# Altium integrated library Voltage Regulators and References.IntLib: 29 symbols
Pins are listed as number, name and electrical type; pins without a type are passive.

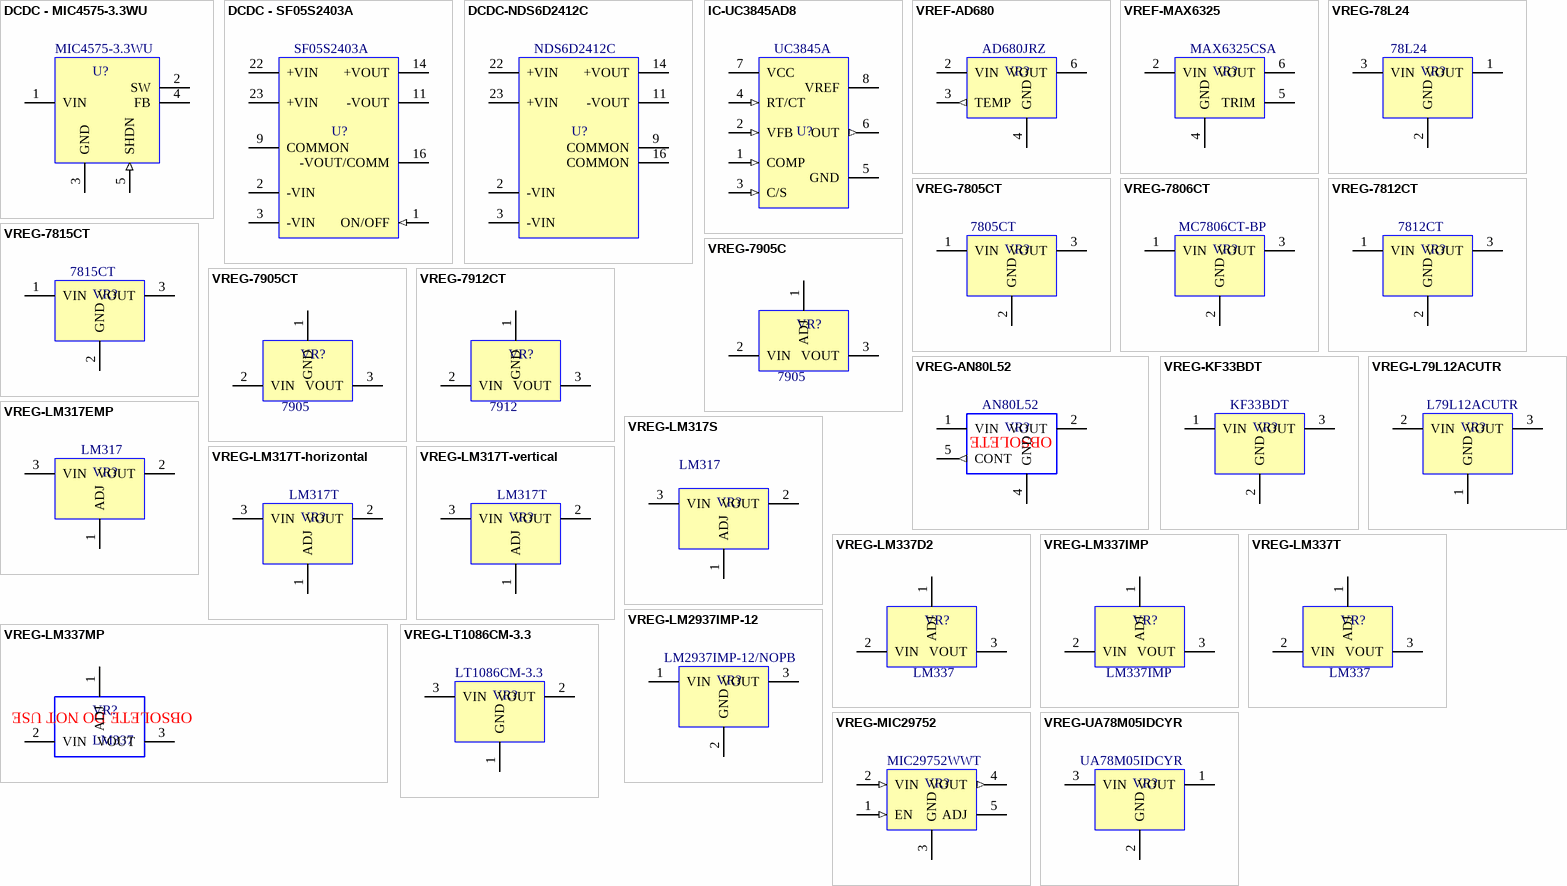
[diagram p0: symbols DCDC - MIC4575-3.3WU to VREG-UA78M05IDCYR]

## DCDC - MIC4575-3.3WU
designator U?, comment MIC4575-3.3WU
MIC4575-3.3WU, IC Regulator, Buck/Buck-Boost, 3.3V out, 1A.  4V-24V DC Input range.  D2 Package; Manufacturer: Micrel Inc.; Output Current: 1A; Output Voltage: 3.3V Fixed; Input Voltage: 4VDC-24VDC; ComponentLink1Description: Datasheet; ComponentLink1URL: \\canopus\Datasheets\Voltage Regulators and References\mic4575.pdf; Output Type: DC; PackageDescription: D2-PAK, 5-Pads and Tab; Package Reference: TO-263-5 (DD-Pack); Supplier 1: Mouser; Supplier Part Number 1: 998-MIC4575-3.3WU; Supplier 2: Digi-Key; Supplier Part Number 2: 576-2341-ND; Supplier 3: Newark; Supplier Part Number 3: 27K8325; Part Number: MIC4575-3.3WU
3D model TO-263_5-pin (PCB3D Model)
footprint TO-263-5 (DD-Pack) (D2-PAK, 6-Pads, Body 7.68x8.69mm (max), IPC Low Density)
pins: 1 VIN, 2 SW (power) "Switching Output", 3 GND (power), 4 FB (power) "Feedback", 5 SHDN (in) "Shutdown"

## DCDC - SF05S2403A
designator U?, comment SF05S2403A
DC-DC Converter, 24VIN, 3.3VOUT; Manufacturer: Delta Electronics; Output Voltage: 3.3V +/- 1.0%; Line Regulation: +/- 0.3%; Isolation Voltage: 1500 VDC; Output Current: 1.2A (max); Output Type: DC; Input Voltage: 18-36VDC; Supplier 1: Digi-Key; Supplier Part Number 1: 941-1366-ND; ComponentLink1Description: Datasheet; ComponentLink1URL: \\canopus\Datasheets\Voltage Regulators and References\DS_SF05S & D series_07162012.pdf; Package Reference: 24 SMD Module (12 leads); Part Number: SF05S2403A
footprint SF05S/D (SF05S/D Series DC/DC Converters, SMD)
pins: 1 ON/OFF (in), 2 -VIN (power), 3 -VIN (power), 9 COMMON, 11 -VOUT (power), 14 +VOUT (power), 16 -VOUT/COMM (power), 22 +VIN (power), 23 +VIN (power)

## DCDC-NDS6D2412C
designator U?, comment NDS6D2412C
DC-DC Converter, 24VIN, +/-12V OUT @ 250mA each; Manufacturer: Murata Power Solutions; Output Voltage: +/- 12V (+/- 2%); Line Regulation: +/- 0.02%; Isolation Voltage: 1500 VDC; Output Current: 250mA (each rail); Output Type: DC; Input Voltage: 18-36VDC; ComponentLink1Description: Datasheet; ComponentLink1URL: \\canopus\Datasheets\Voltage Regulators and References\kdc_nds6c.pdf; PackageDescription: 24 DIP module; Package Reference: 24 SMD Module (12 leads); Supplier 1: Digi-Key; Supplier Part Number 1: 811-1994-5-ND; Supplier 2: Mouser; Supplier Part Number 2: 580-NDS6D2412C; Supplier 3: Allied; Supplier Part Number 3: R1031524; Part Number: NDS6D2412C
footprint NDS6 (DC/DC Converter, 1.26" L x 0.79" W x 0.39" H (32.0mm x 20.1mm x 9.9mm) (1x2 brick))
pins: 2 -VIN (power), 3 -VIN (power), 9 COMMON, 11 -VOUT (power), 14 +VOUT (power), 16 COMMON (power), 22 +VIN (power), 23 +VIN (power)

## IC-UC3845AD8
designator U?, comment UC3845A
Current Mode PWM Controller, DC/DC Switch-mode control, 500kHz max, 50% duty cycle, buck, boost, flyback; Manufacturer: Texas Instruments; Output Type: DC/DC Switching Controller 500kHz; Input Voltage: 7.6V-30VDC; Output Current: N/A; Output Voltage: N/A; PackageDescription: 0.154" (3.90mm) width; Supplier 1: Newark; Supplier Part Number 1: 96W3584; Supplier 2: TME; Supplier Part Number 2: UC3845AD8; Supplier 3: Digi-Key; Supplier Part Number 3: 296-27153-1-ND; ComponentLink1Description: Datasheet; ComponentLink1URL: \\canopus\Datasheets\Voltage Regulators and References\UC3845AD8.pdf; Package Reference: SOIC-8; Part Number: UC3845A
footprint SOIC-8 (SOIC, 8-Leads, Body 4.9x3.9mm, Pitch 1.27mm, IPC Low Density)
3D model SOIC-8-1 (PCB3D Model)
pins: 1 COMP (in), 2 VFB (in), 3 C/S (in), 4 RT/CT (in), 5 GND (power), 6 OUT (out), 7 VCC (power), 8 VREF

## VREF-AD680
designator VR?, comment AD680JRZ
Voltage Reference, 2.5V, 10mA; Manufacturer: Analog Devices; Input Voltage: 4.5V to 36V; Output Type: Fixed; Supplier 1: Digi-Key; Supplier Part Number 1: AD680JRZ-ND; Supplier 2: Newark; Supplier Part Number 2: 87H9962; Supplier 3: Mouser; Supplier Part Number 3: 584-AD680JRZ; Output Current: 10mA; PackageDescription: 0.154" (3.90mm) width; Output Voltage: 2.5V; ComponentLink1Description: Datasheet; ComponentLink1URL: \\canopus\Datasheets\Voltage Regulators and References\AD680.pdf; Package Reference: SOIC-8; Part Number: AD680JRZ
footprint SOIC-8 (SOIC, 8-Leads, Body 4.9x3.9mm, Pitch 1.27mm, IPC Low Density)
3D model SOIC-8-1 (PCB3D Model)
pins: 2 VIN, 3 TEMP (out), 4 GND (power), 6 VOUT (power)

## VREF-MAX6325
designator VR?, comment MAX6325CSA
Voltage Reference, 2.5V, 15mA; Manufacturer: Maxim Integrated; Input Voltage: 8V to 36V; Output Type: Positive Fixed; Output Voltage: 2.5VDC; Output Current: 15mA; PackageDescription: 0.154" (3.90mm) width; Supplier 1: Digi-Key; Supplier Part Number 1: MAX6325CSA+-ND; Supplier 2: Mouser; Supplier Part Number 2: 700-MAX6341CSA; ComponentLink1Description: Datasheet; ComponentLink1URL: \\canopus\Datasheets\Voltage Regulators and References\MAX6325.pdf; Package Reference: SOIC-8; Part Number: MAX6325CSA
footprint SOIC-8 (SOIC, 8-Leads, Body 4.9x3.9mm, Pitch 1.27mm, IPC Low Density)
3D model SOIC-8-1 (PCB3D Model)
pins: 2 VIN, 4 GND (power), 5 TRIM, 6 VOUT (power)

## VREG-78L24
designator VR?, comment Part Number: 78L24  (hidden comment: TA78L24F(TE12L,F))
78L24 Voltage Regulator, 24V, 150mA, LDO; Manufacturer: Toshiba Semiconductor and Storage; Output Type: Positive Fixed; Input Voltage: up to 40V; Voltage (Dropout): 1.7V@150mA; Output Voltage: 24V; Output Current: 150mA; PackageDescription: TO-243AA/SOT-89; Supplier 1: Digi-Key; Supplier Part Number 1: TA78L24F(TE12LF)DKR-ND; Supplier 2: Newark; Supplier Part Number 2: 24M8075; Supplier 3: Mouser; Supplier Part Number 3: 757-TA78L24F(TE12L; ComponentLink1Description: Datasheet; ComponentLink1URL: \\canopus\Datasheets\Voltage Regulators and References\78L24.pdf; Package Reference: SOT-89/TO-243AA
footprint SOT-89 (SOT-89 (TO-243AA) Package, 3 pin (plus 1 tab), surface mount,)
3D model SOT-89-3 (PCB3D Model)
pins: 1 VOUT (power), 2 GND (power), 3 VIN

## VREG-7805CT
designator VR?, comment Part Number: 7805CT  (hidden comment: MC7805CT)
7805CT, Voltage Regulator, Positive fixed, 5V, 1.5A, LDO; Manufacturer: various; Input Voltage: up to 35V; Output Current: 1A; Output Voltage: 5VDC; Voltage (Dropout): 2V at 1A; Output Type: Positive Fixed; PackageDescription: Thru Hole; Supplier 1: Newark; Supplier Part Number 1: 09J6572; Supplier 2: Digi-Key; Supplier Part Number 2: MC7805CT-BPMS-ND; Supplier 3: Mouser; Supplier Part Number 3: 833-MC7805CT-BP; Supplier 4: Allied; Supplier Part Number 4: 70099620; ComponentLink1Description: Datasheet; Package Reference: TO-220
footprint TO-220-HORIZONTAL (TO-220 Package, Horizontal)
footprint TO-220-VERTICAL (TO-220 Package, Vertical)
3D model TO-220-3_HORIZ (PCB3D Model)
3D model TO-220-3_VERT (PCB3D Model)
pins: 1 VIN, 2 GND (power), 3 VOUT (power)

## VREG-7806CT
designator VR?, comment MC7806CT-BP
7806CT, Voltage Regulator, Positive fixed, 6V, 1.5A, LDO, 8-35Vin; Manufacturer: ON Semiconductor; Input Voltage: 8-35V; Output Voltage: 6VDC; Output Current: 1.5A; Output Type: Positive Fixed; PackageDescription: Thru Hole; Supplier 1: Mouser; Supplier Part Number 1: 833-MC7806CT-BP; Supplier 2: Digi-Key; Supplier Part Number 2: MC7806CT-BPMS-ND; ComponentLink1Description: Datasheet; ComponentLink1URL: \\canopus\Datasheets\Voltage Regulators and References\7806CT.pdf; Package Reference: TO-220AB; Part Number: MC7806CT-BP
footprint TO-220-HORIZONTAL (TO-220 Package, Horizontal)
footprint TO-220-VERTICAL (TO-220 Package, Vertical)
3D model TO-220-3_HORIZ (PCB3D Model)
3D model TO-220-3_VERT (PCB3D Model)
pins: 1 VIN, 2 GND (power), 3 VOUT (power)

## VREG-7812CT
designator VR?, comment 7812CT
7812CT, Voltage Regulator, Positive Fixed, 12V, 1A, LDO; Output Voltage: 12VDC; Input Voltage: 14 - 18VDC; Manufacturer: *; Output Current: 1A; Output Type: Positive Fixed; PackageDescription: TO-220 package, w/ heatsink tab; Supplier 1: Newark; Supplier Part Number 1: 88H4762; Supplier 2: Digi-Key; Supplier Part Number 2: MC7812CTGOS-ND; Supplier 3: TME; Supplier Part Number 3: LM7812CT; Supplier 4: Mouser; Supplier Part Number 4: 863-MC7812CTG; ComponentLink1Description: Datasheet; ComponentLink1URL: \\canopus\Datasheets\Voltage Regulators and References\7812CT.PDF; Package Reference: TO-220; Part Number: 7812CT
footprint TO-220-HORIZONTAL (TO-220 Package, Horizontal mounting to PCB)
footprint TO-220-vertical (TO-220 Package, Vertical)
3D model TO-220-3_HORIZ (PCB3D Model)
3D model TO-220-3_VERT (PCB3D Model)
pins: 1 VIN, 2 GND (power), 3 VOUT (power)

## VREG-7815CT
designator VR?, comment 7815CT
7815CT, Voltage Regulator, Positive Fixed, 15V, 1A, LDO; Manufacturer: various; Output Voltage: 15VDC; Input Voltage: up to 35VDC; Voltage (Dropout): 2V at 1A; Output Current: 1A; Output Type: Positive Fixed; PackageDescription: TO-220 package, w/ heatsink tab; Supplier 1: Digi-Key; Supplier Part Number 1: MC7815CTGOS-ND; Supplier 2: Newark; Supplier Part Number 2: 88H4762; Package Reference: TO-220; ComponentLink1Description: Datasheet; Part Number: 7815CT
footprint TO-220-HORIZONTAL (TO-220 Package, Horizontal mounting to PCB)
footprint TO-220-vertical (TO-220 Package, Vertical)
3D model TO-220-3_HORIZ (PCB3D Model)
3D model TO-220-3_VERT (PCB3D Model)
pins: 1 VIN, 2 GND (power), 3 VOUT (power)

## VREG-7905C
designator VR?, comment Part Number: 7905  (hidden comment: MC7905)
7905, Voltage Regulator, Negative fixed, -5V, 1A, LDO; Manufacturer: ON Semiconductors; Input Voltage: -35V to -6.2V; Output Current: 1.5A; Output Voltage: -5VDC; Supplier 1: TME; Supplier Part Number 1: MC7905CD2TG; Supplier 2: Digi-Key; Supplier Part Number 2: MC7905CD2TGOS-ND; Supplier 3: Mouser; Supplier Part Number 3: 863-MC7905CD2TG; Output Type: Negative Fixed; PackageDescription: 2 Leads + Tab; Supplier 4: Newark; Supplier Part Number 4: 71J5768; Voltage (Dropout): -; ComponentLink1Description: Datasheet; ComponentLink1URL: \\canopus\Datasheets\Voltage Regulators and References\7905C.pdf; Package Reference: D2-Pack
footprint TO-263-3 (DD-Pack) (D-PAK/TO-263-3; 3 Leads; Body 14.7 (inc. leads) x 10.2 mm (LxW max))
3D model TO-236-3-TAB (PCB3D Model)
pins: 1 ADJ (power), 2 VIN, 3 VOUT (power)

## VREG-7905CT
designator VR?, comment Part Number: 7905  (hidden comment: 7905CT)
7905, Voltage Regulator, Negative fixed, -5V, 1A, LDO; Manufacturer: various; Input Voltage: -35V to -6.2V; Output Voltage: -12VDC; Output Current: 1A; Output Type: Negative Fixed; PackageDescription: 3 lead; Supplier 1: Newark; Supplier Part Number 1: 45J1467; Supplier 2: Digi-Key; Supplier Part Number 2: MC7905CTGOS-ND; ComponentLink1Description: Datasheet; Package Reference: TO-220
footprint TO-220-HORIZONTAL (TO-220 Package, Horizontal)
pins: 1 GND (power), 2 VIN, 3 VOUT (power)

## VREG-7912CT
designator VR?, comment 7912
7912, Voltage Regulator, Negative fixed, -12V, 1A, LDO; Manufacturer: ON Semiconductors; Input Voltage: -35V to -19V; Output Current: 1.5A; Output Voltage: -12VDC; Voltage (Dropout): 1.1V @ 1A; Output Type: Negative Fixed; PackageDescription: 3 lead; Supplier 1: Newark; Supplier Part Number 1: 71J5771; Supplier 2: TME; Supplier Part Number 2: LM7912CT; Supplier 3: Digi-Key; Supplier Part Number 3: MC7912CTGOS-ND; Supplier 4: Mouser; Supplier Part Number 4: 512-LM7912CT; ComponentLink1Description: Datasheet; Package Reference: TO-220; Part Number: 7912
footprint TO-220-HORIZONTAL (TO-220 Package, Horizontal)
pins: 1 GND (power), 2 VIN, 3 VOUT (power)

## VREG-AN80L52
designator VR?  Part Number: AN80L52  (hidden comment: *)
LDO Regulator, 5.2V, 0.15A; Manufacturer: Panasonic Electronic Components; Input Voltage: 5.6V to 14.6V; Output Current: 150mA; Output Type: Positive Fixed; Output Voltage: 5.2V; PackageDescription: Surface Mount; Supplier 1: Digi-Key; Supplier Part Number 1: AN80L52RMS-ND; ComponentLink1Description: Datasheet; ComponentLink1URL: \\canopus\Datasheets\Voltage Regulators and References\AN80L52.pdf; Package Reference: SOT-23-5
footprint sot-23-5 (SOT-723, MINI-5D)
3D model SOT-23-5-1 (PCB3D Model)
pins: 1 VIN, 2 VOUT (power), 4 GND (power), 5 CONT (out)
text: OBSOLETE

## VREG-KF33BDT
designator VR?, comment KF33BDT
Voltage Regulator, Positive fixed, 3.3V, 500mA; Manufacturer: ST Microelectronics; Input Voltage: -0.5V to 20V; Voltage (Dropout): 0.4V @ 500mA; Output Current: 500mA; Output Type: Positive Fixed; Output Voltage: 3.3V; PackageDescription: 2 Leads + Tab; Supplier 1: Digi-Key; Supplier Part Number 1: 497-1148-1-ND; Supplier 2: Newark; Supplier Part Number 2: 89K0599; Supplier 3: Mouser; Supplier Part Number 3: 511-KF33BDT-TR; ComponentLink1Description: Datasheet; ComponentLink1URL: \\canopus\Datasheets\Voltage Regulators and References\KF33BDT.pdf; Package Reference: D-Pack; Part Number: KF33BDT
footprint TO-252 (D-Pack) (D-PAK/TO-263-3; 3 Leads; Body 14.7 (inc. leads) x 10.2 mm (LxW max))
3D model TO252 (PCB3D Model)
pins: 1 VIN, 2 GND (power), 3 VOUT (power)

## VREG-L79L12ACUTR
designator VR?, comment L79L12ACUTR
L79 series, Voltage Regulator, Negative fixed, -12V, 100mA, LDO; Manufacturer: STMicroelectronics; Input Voltage: Down to -35V; Output Voltage: -12VDC; Voltage (Dropout): 2V at 1A; Output Current: 100mA; Output Type: Negative Fixed; PackageDescription: Thru Hole; Package Reference: TO-220; Supplier 1: Mouser; Supplier Part Number 1: 511-L79L12ACU-TR; Supplier 2: Newark; Supplier Part Number 2: 56P8881; Supplier 3: Digi-Key; Supplier Part Number 3: 497-7301-1-ND; ComponentLink1Description: Datasheet; ComponentLink1URL: \\canopus\Datasheets\Voltage Regulators and References\L79L.pdf; Part Number: L79L12ACUTR
3D model SOT-89-3 (PCB3D Model)
footprint SOT-89 (SOT-89 (TO-243AA) Package, 3 pin (plus 1 tab), surface mount,)
pins: 1 GND (power), 2 VIN, 3 VOUT (power)

## VREG-LM317EMP
designator VR?, comment Part Number: LM317  (hidden comment: LM317 SOT-223)
LM317 Voltage Regulator, Positive Adjustable, LDO, 1.2V to 37V, 1.0A, SOT-223 package; Manufacturer: Texas Instruments; Input Voltage: 3V < (Vin - Vout) < 40V; Output Voltage: 1.2V to 37VDC; Output Current: 1.0A; Output Type: Positive Adjustable; PackageDescription: Surface Mount; Supplier 1: Newark; Supplier Part Number 1: 20J4456; Supplier 2: Digi-Key; Supplier Part Number 2: LM317EMP/NOPBCT-ND; Supplier 3: Mouser; Supplier Part Number 3: 926-LM317EMP/NOPB; Voltage (Dropout): -; ComponentLink1Description: Datasheet; ComponentLink1URL: \\canopus\Datasheets\Voltage Regulators and References\LM317S.pdf; Package Reference: SOT-223
3D model SOT-223-3-TAB (PCB3D Model)
footprint SOT-223 (Surface mount, 4 pin, 91mil pitch, 248mil pad spacing width)
pins: 1 ADJ (power), 2 VOUT (power), 3 VIN

## VREG-LM317S
designator VR?, comment Part Number: LM317  (hidden comment: LM317-D2Pak)
LM317 Voltage Regulator, Positive adjustable, LDO, 1.2V to 37V, 1.5A, D2Pak; Manufacturer: Texas Instruments; Output Type: Positive, Adjustable; Output Voltage: 1.2V to 37VDC; Input Voltage: 1.2V to 37V; Output Current: 1.5A; PackageDescription: 3 Leads + Tab; Supplier 1: Newark; Supplier Part Number 1: 41K4661; Supplier 2: Digi-Key; Supplier Part Number 2: LM317S/NOPB-ND; Supplier 3: TME; Supplier Part Number 3: LM317S-NSC; Supplier 4: Mouser; Supplier Part Number 4: 926-LM317S/NOPB; ComponentLink1Description: Datasheet; ComponentLink1URL: \\canopus\Datasheets\Voltage Regulators and References\LM317S.pdf; Package Reference: D2Pak/TO-263-3
footprint TO-263-3 (DD-Pack) (D-PAK/TO-263-3; 3 Leads; Body 14.7 (inc. leads) x 10.2 mm (LxW max))
3D model TO-236-3-TAB (PCB3D Model)
pins: 1 ADJ (power), 2 VOUT (power), 3 VIN

## VREG-LM317T-horizontal
designator VR?, comment Part Number: LM317T  (hidden comment: LM317 TO-220)
LM317 Voltage Regulator, Positive Adjustable, LDO, 1.2V to 37V, 1.0A, SOT-223 package; Manufacturer: Texas Instruments; Input Voltage: 3V < (Vin - Vout) < 40V; Output Current: 1.5A; Output Voltage: 1.2V to 37VDC; Output Type: Positive Adjustable; PackageDescription: Surface Mount; Voltage (Dropout): -; ComponentLink1Description: Datasheet; ComponentLink1URL: \\canopus\Datasheets\Voltage Regulators and References\LM317S.pdf; Supplier 1: Newark; Supplier Part Number 1: 45J0735; Supplier 2: Digi-Key; Supplier Part Number 2: LM317TGOS-ND; Package Reference: TO-220
footprint TO-220-HORIZONTAL (TO-220 Package, Horizontal)
pins: 1 ADJ (power), 2 VOUT (power), 3 VIN

## VREG-LM317T-vertical
designator VR?, comment Part Number: LM317T  (hidden comment: LM317 TO-220)
LM317 Voltage Regulator, Positive Adjustable, LDO, 1.2V to 37V, 1.0A, SOT-223 package; Manufacturer: Texas Instruments; Input Voltage: 3V < (Vin - Vout) < 40V; Output Current: 1.5A; Output Voltage: 1.2V to 37VDC; Output Type: Positive Adjustable; PackageDescription: Surface Mount; Voltage (Dropout): -; ComponentLink1Description: Datasheet; ComponentLink1URL: \\canopus\Datasheets\Voltage Regulators and References\LM317S.pdf; Supplier 1: Newark; Supplier Part Number 1: 45J0735; Supplier 2: Digi-Key; Supplier Part Number 2: LM317TGOS-ND; Package Reference: TO-220
footprint TO-220-vertical (TO-220 Package, Vertical)
pins: 1 ADJ (power), 2 VOUT (power), 3 VIN

## VREG-LM337D2
designator VR?, comment Part Number: LM337  (hidden comment: LM337 D2-Pak)
LM337 Voltage Regulator, Negative adjustable, D2Pak, LDO, -1.2V to -37V, 1.5A; Manufacturer: ON Semiconductor; Output Voltage: -1.2V to -37VDC; Input Voltage: -1.2V to -37V; Output Current: 1.5A; Output Type: Negative Adjustable; PackageDescription: Surface Mount, 2 Leads + Tab; Supplier 1: Digi-Key; Supplier Part Number 1: LM337D2TGOS-ND; Supplier 2: Mouser; Supplier Part Number 2: 863-LM337D2TR4G; Supplier 3: Newark; Supplier Part Number 3: 71J5017; ComponentLink1Description: Datasheet; ComponentLink1URL: \\canopus\Datasheets\Voltage Regulators and References\LM337D2.pdf; Package Reference: D2-Pak\TO-263-3
footprint TO-263-3 (DD-Pack) (D-PAK/TO-263-3; 3 Leads; Body 14.7 (inc. leads) x 10.2 mm (LxW max))
3D model TO-236-3-TAB (PCB3D Model)
pins: 1 ADJ (power), 2 VIN, 3 VOUT (power)

## VREG-LM337IMP
designator VR?, comment Part Number: LM337IMP  (hidden comment: LM337)
LM337 Voltage Regulator, SOT-223, Negative Adjustable, LDO, -1.2V to -37V, 1A; Manufacturer: Texas Instruments; Input Voltage: -4.2V to -50V; Output Current: 1A; Output Type: Negative Adjustable; Output Voltage: -1.2V to -37V; PackageDescription: TO-261-4, surface mount; Supplier 1: Newark; Supplier Part Number 1: 41K4742; Supplier 2: Digi-Key; Supplier Part Number 2: LM337IMP/NOPBCT-ND; Supplier 3: Mouser; Supplier Part Number 3: 926-LM337IMP/NOPB; ComponentLink1Description: Datasheet; ComponentLink1URL: \\canopus\Datasheets\Voltage Regulators and References\LM337IMP.pdf; Package Reference: SOT-223
footprint SOT-223 (Surface mount, 4 pin, 91mil pitch, 248mil pad spacing width)
3D model SOT-223-3-TAB (PCB3D Model)
pins: 1 ADJ (power), 2 VIN, 3 VOUT (power)

## VREG-LM337MP
designator VR?, comment LM337
Discontinued; ComponentLink1Description: Datasheet
pins: 1 ADJ (power), 2 VIN, 3 VOUT (power)
text: OBSOLETE DO NOT USE

## VREG-LM337T
designator VR?, comment Part Number: LM337  (hidden comment: LM337T)
LM337 Voltage Regulator, TO-220 Package, , LDO, -1.2V to -37V, 1.5A; Manufacturer: Fairchild Semiconductor; Input Voltage: down to -40V; Output Type: Negative Adjustable; Output Current: 1.5A; Output Voltage: -1.2V to -37V; PackageDescription: Thru Hole; Supplier 1: TME; Supplier Part Number 1: LM337TG; Supplier 2: Mouser; Supplier Part Number 2: 512-LM337T; Supplier 3: Digi-Key; Supplier Part Number 3: LM337TFS-ND; Supplier 4: Newark; Supplier Part Number 4: 58K8937; ComponentLink1Description: Datasheet; ComponentLink1URL: \\canopus\Datasheets\Voltage Regulators and References\LM337T.pdf; Package Reference: TO-220-3
footprint TO-220-HORIZONTAL (TO-220 Package, Horizontal)
footprint TO-220-vertical (TO-220 Package, Vertical)
3D model TO-220-3_HORIZ (PCB3D Model)
3D model TO-220-3_VERT (PCB3D Model)
pins: 1 ADJ (power), 2 VIN, 3 VOUT (power)

## VREG-LM2937IMP-12
designator VR?, comment LM2937IMP-12/NOPB
Voltage Regulator, Positive fixed, 12V, 400mA; Manufacturer: Texas Instruments; Input Voltage: Up to 26VDC; Output Voltage: +12V; Voltage (Dropout): 1V @ 500mA; Output Current: 400mA; Output Type: Positive Fixed; PackageDescription: Surface mount, 4 pin, 91mil pitch, 248mil pad spacing width; ComponentLink1Description: Datasheet; ComponentLink1URL: \\canopus\Datasheets\Voltage Regulators and References\LM2937.pdf; Package Reference: SOT-223; Supplier 1: Newark; Supplier Part Number 1: 41K4556; Supplier 2: Mouser; Supplier Part Number 2: 926-LM2937IMP-12NOPB; Supplier 3: Digi-Key; Supplier Part Number 3: LM2937IMP-12/NOPBCT-ND; Part Number: LM2937IMP-12/NOPB
footprint SOT-223 (Surface mount, 4 pin, 91mil pitch, 248mil pad spacing width)
3D model SOT-223-3-TAB (PCB3D Model)
pins: 1 VIN, 2 GND (power), 3 VOUT (power)

## VREG-LT1086CM-3.3
designator VR?, comment LT1086CM-3.3
Voltage Regulator, Positive fixed, 3.3V, 1.5A; Manufacturer: Linear Technologies; Input Voltage: -0.5V to 20V; Voltage (Dropout): 0.4V @ 1.5A; Output Current: 1.5A; Output Type: Positive Fixed; Output Voltage: 3.3V; PackageDescription: 3 Leads + Tab; ComponentLink1Description: Datasheet; ComponentLink1URL: \\canopus\Datasheets\Voltage Regulators and References\LT108-Series.pdf; Supplier 1: TME; Supplier Part Number 1: LT1086CM-3.3; Supplier 2: Digi-Key; Supplier Part Number 2: LT1086CM-3.3#PBF-ND; Supplier 3: Newark; Supplier Part Number 3: 57M1535; Package Reference: D2-Pack; Part Number: LT1086CM-3.3
footprint TO-263-3 (DD-Pack) (D-PAK/TO-263-3; 3 Leads; Body 14.7 (inc. leads) x 10.2 mm (LxW max))
3D model TO-236-3-TAB (PCB3D Model)
pins: 1 GND, 2 VOUT (power), 3 VIN (power)

## VREG-MIC29752
designator VR?, comment MIC29752WWT
Voltage Regulator, LDO, 2V to 26V, 7.5A; Manufacturer: Micrel Inc.; Input Voltage: 2V to 26VDC; Output Type: Positive Adjustable; Output Voltage: 1.25V - 26VDC; Output Current: 7.5A; PackageDescription: 5 pin version TO-247 package; Supplier 1: Digi-Key; Supplier Part Number 1: 576-1157-ND; Supplier 2: Mouser; Supplier Part Number 2: 998-MIC29752WWT; ComponentLink1Description: Datasheet; ComponentLink1URL: \\canopus\Datasheets\Voltage Regulators and References\MIC29752.pdf; Package Reference: TO-247 5 pin; Part Number: MIC29752WWT
footprint TO-247-5-horizontal
footprint TO-247-5 - VERTICAL (TO-247 Package, 5 pin, Vertical mount)
3D model TO-247_bent_leads (PCB3D Model)
3D model TO-247 (PCB3D Model)
pins: 1 EN (in), 2 VIN (in), 3 GND (power), 4 VOUT (out), 5 ADJ

## VREG-UA78M05IDCYR
designator VR?, comment UA78M05IDCYR
7805 Series, Voltage Regulator, Positive fixed, 5V, 500mA, LDO; Manufacturer: various; Input Voltage: up to 35V; Output Voltage: 5VDC; Voltage (Dropout): 2V @500mA; Output Current: 500mA; Output Type: Positive Fixed; PackageDescription: Surface mount, 4 pin, 91mil pitch, 248mil pad spacing width; Package Reference: SOT-223; Supplier 1: Digi-Key; Supplier Part Number 1: 296-17616-6-ND; Supplier 2: Mouser; Supplier Part Number 2: 595-UA78M05IDCYR; Supplier 3: Newark; Supplier Part Number 3: 44J2615; ComponentLink1Description: Datasheet; Part Number: UA78M05IDCYR
footprint SOT-223 (Surface mount, 4 pin, 91mil pitch, 248mil pad spacing width)
3D model SOT-223-3-TAB (PCB3D Model)
pins: 1 VOUT (power), 2 GND (power), 3 VIN